# EAGLE library part AS-ITM-00176 (library tinycircuits)
IC REG BST SYNC ADJ 0.1A SOT23-6
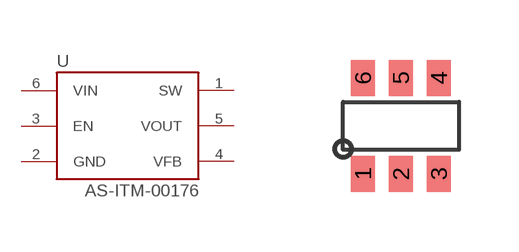
[diagram p77: symbol with the pads of SOT-23-6; footprint SOT-23-6]

Designator prefix U

## AS-ITM-00176 (PARTNO: AS-ITM-00176; VALUE: MCP1640DT-I/CHY)  [SOT-23-6]
1  SW
2  GND
3  EN
4  VFB
5  VOUT
6  VIN

## Footprint SOT-23-6 (pad centres in mm)
smd 0.6 x 0.9: 1 -0.95,-1.2; 2 0,-1.2; 3 0.95,-1.2; 4 0.95,1.2; 5 0,1.2; 6 -0.95,1.2